# Altium footprint library TO254P490X1016X1970-3P.PcbLib: 1 footprints
Each footprint in its own frame and in the unit in brackets; x right, y up, seen from the top. Pads: shape width x height; smd on the part's side, far side on the other; paste and mask are expansions set on the pad; w line width, h text height; cw(c..) or ccw(c..) is an arc to the next point about the centre after c.
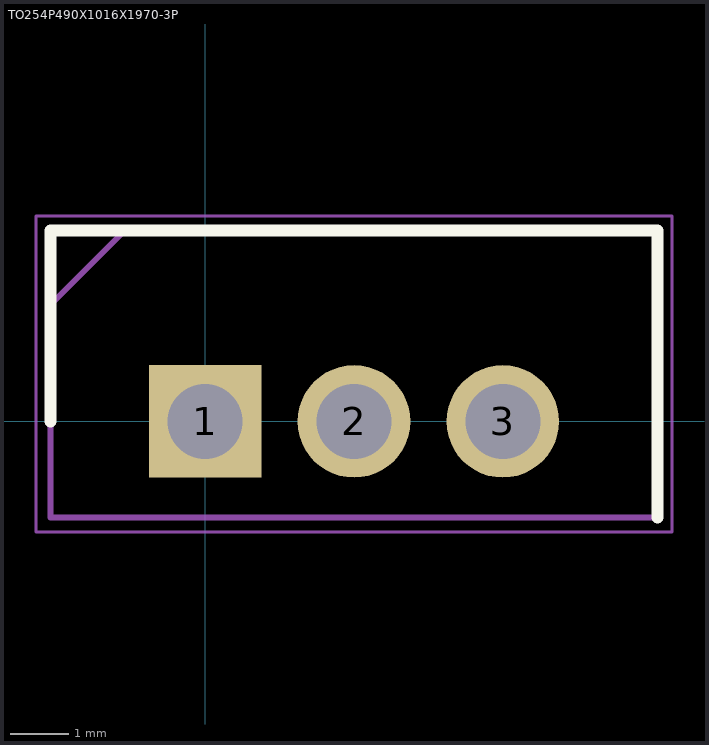
[diagram p0: the footprint, top view; thin cyan lines are the x and y axes]

## TO254P490X1016X1970-3P [mm]
pads (3):
  rect 1.92x1.92 / inner round 1.92 / far side rect 1.92x1.92 hole 1.28: 1(0,0)
  round 1.92 hole 1.28: 2(2.54,0) 3(5.08,0)
Top Overlay:
  lines w0.2: -2.64,0 -2.64,3.26 7.72,3.26 7.72,-1.64
Mechanical 15:
  lines w0.1: -2.64,1.99 -1.37,3.26 ; -2.64,-1.64 7.72,-1.64 7.72,3.26 -2.64,3.26 -2.64,-1.64
Mechanical 20:
  lines w0.05: -2.89,-1.89 7.97,-1.89 7.97,3.51 -2.89,3.51 -2.89,-1.89
3D body "FDPF18N20FT.stp": height 5.8, standoff -4.65, extent -10,-3.376 10,3.376